# Altium schematic symbol library Minty-sniffle.SchLib: 10 symbols
Pins are listed as number, name and electrical type; pins without a type are passive.

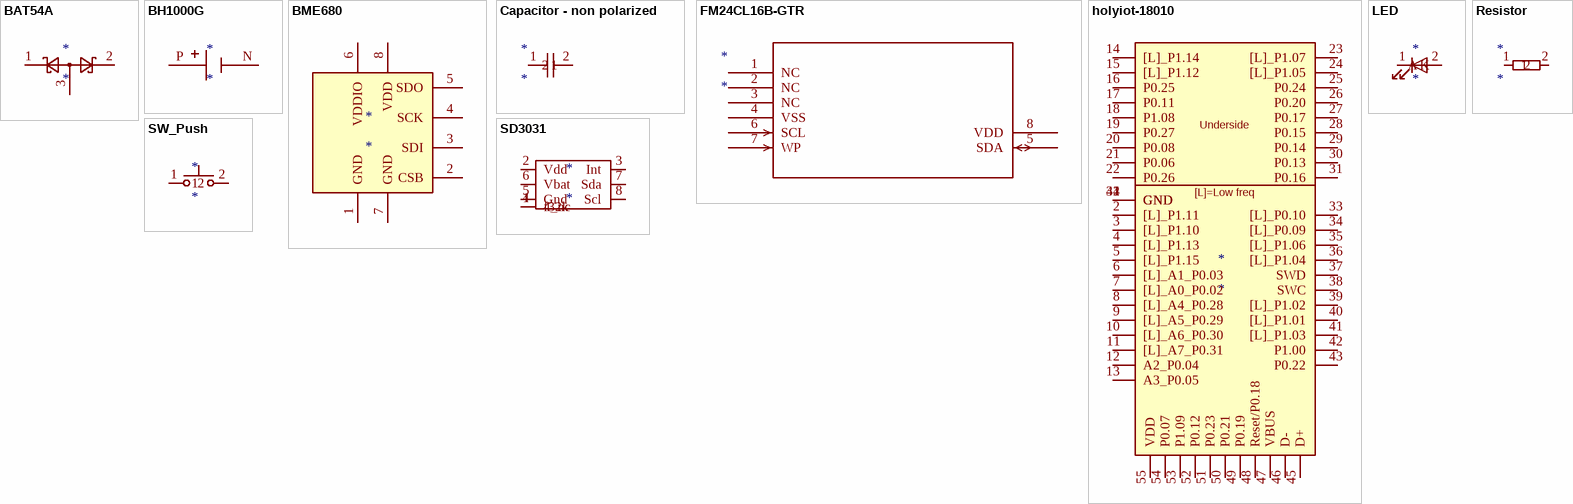
[diagram p0: symbols BAT54A to SW_Push]

## BAT54A
designator *
pins: 1, 2, 3

## BH1000G
designator *
pins: N, P

## BME680
designator *
pins: 1 GND, 2 CSB, 3 SDI, 4 SCK, 5 SDO, 6 VDDIO, 7 GND, 8 VDD

## Capacitor - non polarized
designator *
pins: 1, 2

## FM24CL16B-GTR
designator *
pins: 1 NC, 2 NC, 3 NC, 4 VSS, 5 SDA, 6 SCL, 7 WP, 8 VDD

## holyiot-18010
designator *
pins: 1 GND, 2 [L]_P1.11, 3 [L]_P1.10, 4 [L]_P1.13, 5 [L]_P1.15, 6 [L]_A1_P0.03, 7 [L]_A0_P0.02, 8 [L]_A4_P0.28, 9 [L]_A5_P0.29, 10 [L]_A6_P0.30, 11 [L]_A7_P0.31, 12 A2_P0.04, 13 A3_P0.05, 14 [L]_P1.14, 15 [L]_P1.12, 16 P0.25, 17 P0.11, 18 P1.08, 19 P0.27, 20 P0.08, 21 P0.06, 22 P0.26, 23 [L]_P1.07, 24 [L]_P1.05, 25 P0.24, 26 P0.20, 27 P0.17, 28 P0.15, 29 P0.14, 30 P0.13, 31 P0.16, 32 GND, 33 [L]_P0.10, 34 [L]_P0.09, 35 [L]_P1.06, 36 [L]_P1.04, 37 SWD, 38 SWC, 39 [L]_P1.02, 40 [L]_P1.01, 41 [L]_P1.03, 42 P1.00, 43 P0.22, 44 GND, 45 D+, 46 D-, 47 VBUS, 48 Reset/P0.18, 49 P0.19, 50 P0.21, 51 P0.23, 52 P0.12, 53 P1.09, 54 P0.07, 55 VDD
text: Underside; [L]=Low freq

## LED
designator *
pins: 1 K, 2 A

## Resistor
designator *
pins: 1, 2

## SD3031
designator *
pins: 1 f32k, 2 Vdd, 3 Int, 4 4_nc, 5 Gnd, 6 Vbat, 7 Sda, 8 Scl

## SW_Push
designator *
pins: 1, 2